# Altium footprint library dimploma.PcbLib: 50 footprints (part 4 of 4)
Each footprint in its own frame and in the unit in brackets; x right, y up, seen from the top. Pads: shape width x height; smd on the part's side, far side on the other; paste and mask are expansions set on the pad; w line width, h text height; cw(c..) or ccw(c..) is an arc to the next point about the centre after c.
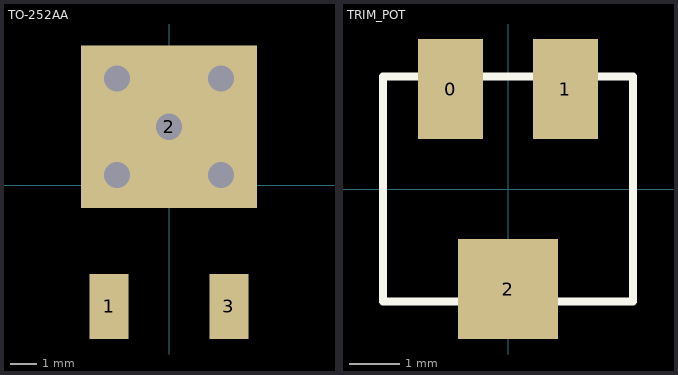
[diagram p3: the footprints below, top view; thin cyan lines are the x and y axes]

## TO-252AA [mm] "D-PAK or TO-252AA package footprint"
pads (3):
  rect 1.5x2.5 smd: 1(-2.3,-4.65) 3(2.3,-4.65)
  rect 6.74x6.23 smd: 2(0,2.25)
via 0,2.25 diameter 1.5 hole 1
via 2,0.4 diameter 1.5 hole 1
via -2,4.1 diameter 1.5 hole 1
via 2,4.1 diameter 1.5 hole 1
via -2,0.4 diameter 1.5 hole 1

## TRIM_POT [mm]
pads (3):
  rect 1.3x2 smd: 0(-1.15,2) 1(1.15,2)
  rect 2x2 smd: 2(0,-2)
Top Overlay:
  lines w0.152: -2.5,-2.25 2.5,-2.25 2.5,2.25 -2.5,2.25 -2.5,-2.25
3D body "Trim_Pot.stp": height 2.6, standoff 0, extent -2.5,-2.46 2.5,2.46